# EAGLE library part 2MM-DUAL-13-HEADER (library DAC)
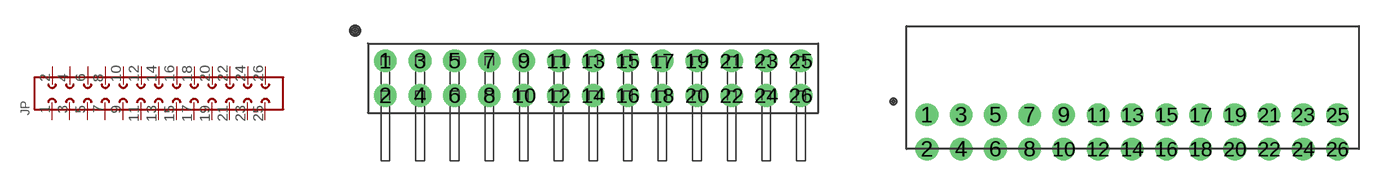
[diagram p4: symbol with the pads of 2MMDUALR/AHEADER-13; footprints 2MMDUALR/AHEADER-13, 2MMDUALR/ARECEPT-13]

Designator prefix JP

## 2MM-DUAL-13-HEADERMALE  [2MMDUALR/AHEADER-13]
1  P$1
2  P$2
3  P$3
4  P$4
5  P$5
6  P$6
7  P$7
8  P$8
9  P$9
10  P$10
11  P$11
12  P$12
13  P$13
14  P$14
15  P$15
16  P$16
17  P$17
18  P$18
19  P$19
20  P$20
21  P$21
22  P$22
23  P$23
24  P$24
25  P$25
26  P$26

## 2MM-DUAL-13-HEADERFEMALE  [2MMDUALR/ARECEPT-13]
Pads as for 2MMDUALR/AHEADER-13

## Footprint 2MMDUALR/AHEADER-13 (pad centres in mm)
drill 0.8 round: 1 -12,1; 2 -12,-1; 3 -10,1; 4 -10,-1; 5 -8,1; 6 -8,-1; 7 -6,1; 8 -6,-1; 9 -4,1; 10 -4,-1; 11 -2,1; 12 -2,-1; 13 0,1; 14 0,-1; 15 2,1; 16 2,-1; 17 4,1; 18 4,-1; 19 6,1; 20 6,-1; 21 8,1; 22 8,-1; 23 10,1; 24 10,-1; 25 12,1; 26 12,-1

## Footprint 2MMDUALR/ARECEPT-13 (pad centres in mm)
drill 0.813 round: 1 -12,1; 2 -12,-1; 3 -10,1; 4 -10,-1; 5 -8,1; 6 -8,-1; 7 -6,1; 8 -6,-1; 9 -4,1; 10 -4,-1; 11 -2,1; 12 -2,-1; 13 0,1; 14 0,-1; 15 2,1; 16 2,-1; 17 4,1; 18 4,-1; 19 6,1; 20 6,-1; 21 8,1; 22 8,-1; 23 10,1; 24 10,-1; 25 12,1; 26 12,-1